# EAGLE library part FT240X (library apple-idun)
FTDI FT240X Full Speed USB to 8-bit FIFO This USB2.0 Full Speed IC offers a compact bridge to 8 bit wide FIFO interfaces. The device is a FIFO, capable of operating up to 1 MByte/s, with low power consumption (8mA). The FT240X includes the complete FT-X series feature set and enables USB to be added into a system design quickly and easily over a 8 bit wide FIFO interface http://www.ftdichip.com/Products/ICs/FT240X.html
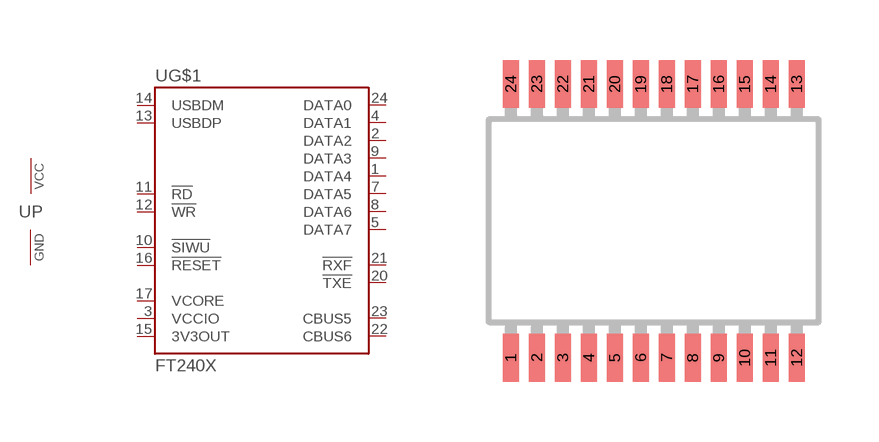
[diagram p0: symbol with the pads of SSOP24; footprint SSOP24]

Designator prefix U; gates G$1=FT240X P=PWRN

## FT240XS  [SSOP24]
1  G$1:DATA4
2  G$1:DATA2
3  G$1:VCCIO  pwr
4  G$1:DATA1
5  G$1:DATA7
6  P:GND  pwr
7  G$1:DATA5
8  G$1:DATA6
9  G$1:DATA3
10  G$1:!SIWU  in
11  G$1:!RD  in
12  G$1:!WR  in
13  G$1:USBDP  in
14  G$1:USBDM  in
15  G$1:3V3OUT  pwr
16  G$1:!RESET  in
17  G$1:VCORE  pwr
18  P:VCC  pwr
19  P:GND  pwr
20  G$1:!TXE  out
21  G$1:!RXF  out
22  G$1:CBUS6
23  G$1:CBUS5
24  G$1:DATA0

## Footprint SSOP24 (pad centres in mm)
Small Shrink Outline Package SOT340-1 / JEDEC MO-150AG
smd 0.4 x 1.2: 1 -3.575,-3.42; 2 -2.925,-3.42; 3 -2.275,-3.42; 4 -1.625,-3.42; 5 -0.975,-3.42; 6 -0.325,-3.42; 7 0.325,-3.42; 8 0.975,-3.42; 9 1.625,-3.42; 10 2.275,-3.42; 11 2.925,-3.42; 12 3.575,-3.42; 13 3.575,3.42; 14 2.925,3.42; 15 2.275,3.42; 16 1.625,3.42; 17 0.975,3.42; 18 0.325,3.42; 19 -0.325,3.42; 20 -0.975,3.42; 21 -1.625,3.42; 22 -2.275,3.42; 23 -2.925,3.42; 24 -3.575,3.42